# EAGLE library part RN2903 (library Module)
Microchip RN2903 LoRa Module
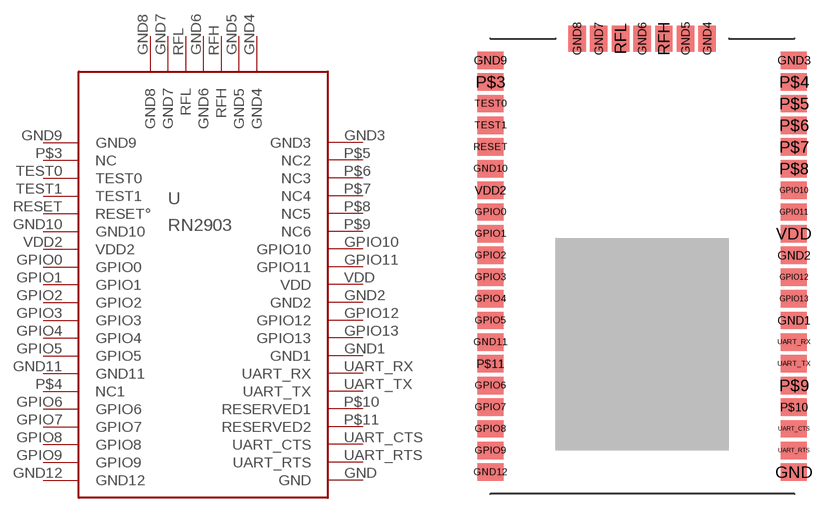
[diagram p10: symbol with the pads of RN2903; footprint RN2903]

Designator prefix -

## RN2903 (CYTRON-PC: RN2903; DESC: Microchip RN2903 LoRa Module)  [RN2903]
GND  GND
GND1  GND1
GND2  GND2
GND3  GND3
GND4  GND4
GND5  GND5
GND6  GND6
GND7  GND7
GND8  GND8
GND9  GND9
GND10  GND10
GND11  GND11
GND12  GND12
GPIO0  GPIO0
GPIO1  GPIO1
GPIO2  GPIO2
GPIO3  GPIO3
GPIO4  GPIO4
GPIO5  GPIO5
GPIO6  GPIO6
GPIO7  GPIO7
GPIO8  GPIO8
GPIO9  GPIO9
GPIO10  GPIO10
GPIO11  GPIO11
GPIO12  GPIO12
GPIO13  GPIO13
P$3  NC
P$4  NC1
P$5  NC2
P$6  NC3
P$7  NC4
P$8  NC5
P$9  NC6
P$10  RESERVED1
P$11  RESERVED2
RESET  RESET°
RFH  RFH
RFL  RFL
TEST0  TEST0
TEST1  TEST1
UART_CTS  UART_CTS
UART_RTS  UART_RTS
UART_RX  UART_RX
UART_TX  UART_TX
VDD  VDD
VDD2  VDD2

## Footprint RN2903 (pad centres in mm)
smd 1.524 x 1.016: GND 8.89,-11.43; GND1 8.89,-2.54; GND2 8.89,1.27; GND3 8.89,12.7; GND9 -8.89,12.7; GND10 -8.89,6.35; GND11 -8.89,-3.81; GND12 -8.89,-11.43; GPIO0 -8.89,3.81; GPIO1 -8.89,2.54; GPIO2 -8.89,1.27; GPIO3 -8.89,0; GPIO4 -8.89,-1.27; GPIO5 -8.89,-2.54; GPIO6 -8.89,-6.35; GPIO7 -8.89,-7.62; GPIO8 -8.89,-8.89; GPIO9 -8.89,-10.16; GPIO10 8.89,5.08; GPIO11 8.89,3.81; GPIO12 8.89,0; GPIO13 8.89,-1.27; P$3 -8.89,11.43; P$4 8.89,11.43; P$5 8.89,10.16; P$6 8.89,8.89; P$7 8.89,7.62; P$8 8.89,6.35; P$9 8.89,-6.35; P$10 8.89,-7.62; P$11 -8.89,-5.08; RESET -8.89,7.62; TEST0 -8.89,10.16; TEST1 -8.89,8.89; UART_CTS 8.89,-8.89; UART_RTS 8.89,-10.16; UART_RX 8.89,-3.81; UART_TX 8.89,-5.08; VDD 8.89,2.54; VDD2 -8.89,5.08
smd 1.016 x 1.524: GND4 3.81,13.97; GND5 2.54,13.97; GND6 0,13.97; GND7 -2.54,13.97; GND8 -3.81,13.97; RFH 1.27,13.97; RFL -1.27,13.97